# EAGLE library part FLEX_CONNECTOR (library flex_connector)
Flex housing
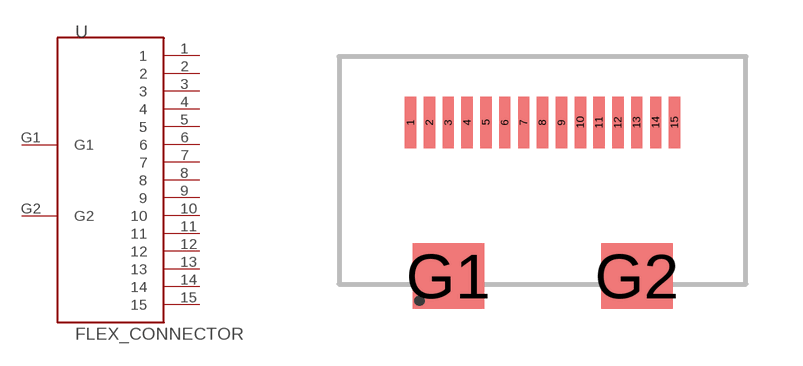
[diagram p0: symbol with the pads of FLEX_CONNECTOR; footprint FLEX_CONNECTOR]

Designator prefix U

## FLEX_CONNECTOR  [FLEX_CONNECTOR]
1  1
2  2
3  3
4  4
5  5
6  6
7  7
8  8
9  9
10  10
11  11
12  12
13  13
14  14
15  15
G1  G1
G2  G2

## Footprint FLEX_CONNECTOR (pad centres in mm)
smd 0.3 x 1.37: 1 -3.5,2.125; 2 -3,2.13; 3 -2.5,2.125; 4 -2,2.125; 5 -1.5,2.13; 6 -1,2.13; 7 -0.5,2.13; 8 0,2.13; 9 0.505,2.125; 10 1.005,2.13; 11 1.5,2.125; 12 2,2.125; 13 2.5,2.13; 14 3.005,2.13; 15 3.505,2.125
smd 1.9 x 1.75: G1 -2.5,-1.945; G2 2.51,-1.945